# EAGLE library part LOGIC_CONVERT_8CH (library kxn_Standard_module_ForTutorial)
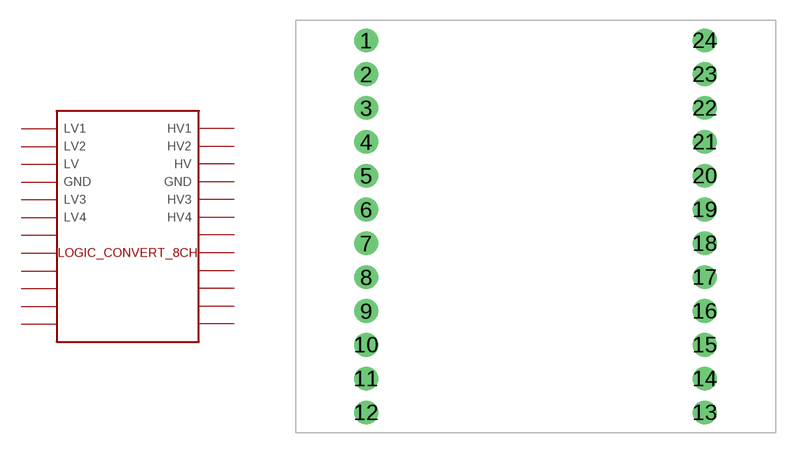
[diagram p4: symbol with the pads of LOGIC_CONVERT_8CH_FET; footprint LOGIC_CONVERT_8CH_FET]

Designator prefix -

## LOGIC_CONVERT_8CH  [LOGIC_CONVERT_8CH_FET]
1  1
2  2
3  3
4  4
5  5
6  6
7  7
8  8
9  9
10  10
11  11
12  12
13  13
14  14
15  15
16  16
17  17
18  18
19  19
20  20
21  21
22  22
23  23
24  24

## Footprint LOGIC_CONVERT_8CH_FET (pad centres in mm)
drill 0.8 pad 1.778: 1 -12.7,13.97; 2 -12.7,11.43; 3 -12.7,8.89; 4 -12.7,6.35; 5 -12.7,3.81; 6 -12.7,1.27; 7 -12.7,-1.27; 8 -12.7,-3.81; 9 -12.7,-6.35; 10 -12.7,-8.89; 11 -12.7,-11.43; 12 -12.7,-13.97; 13 12.7,-13.97; 14 12.7,-11.43; 15 12.7,-8.89; 16 12.7,-6.35; 17 12.7,-3.81; 18 12.7,-1.27; 19 12.7,1.27; 20 12.7,3.81; 21 12.7,6.35; 22 12.7,8.89; 23 12.7,11.43; 24 12.7,13.97